# EAGLE library part FE05-2 (library squirrel)
FEMALE HEADER
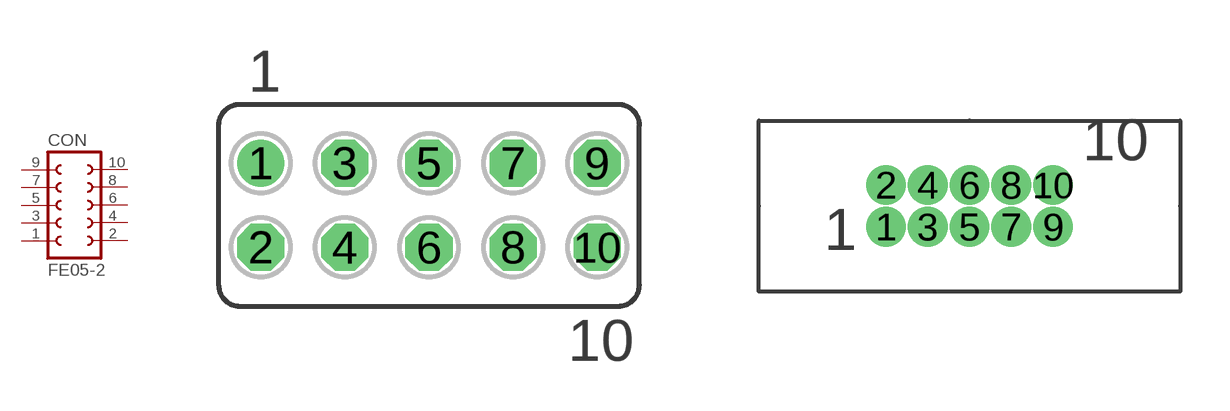
[diagram p20: symbol with the pads of FE05-2; footprints FE05-2, FE05-2-HD]

Designator prefix CON

## FE05-2 (OC_FARNELL: unknown; OC_NEWARK: unknown)  [FE05-2]
1  1  pas
2  2  pas
3  3  pas
4  4  pas
5  5  pas
6  6  pas
7  7  pas
8  8  pas
9  9  pas
10  10  pas

## FE05-2HD  [FE05-2-HD]
Pads as for FE05-2

## FE05-2HD-2  [FE02-2-HD-2]
Pads as for FE05-2

## Footprint FE05-2 (pad centres in mm)
FEMALE HEADER
drill 0.914: 1 -5.08,1.27
drill 0.914 octagon: 2 -5.08,-1.27; 3 -2.54,1.27; 4 -2.54,-1.27; 5 0,1.27; 6 0,-1.27; 7 2.54,1.27; 8 2.54,-1.27; 9 5.08,1.27; 10 5.08,-1.27

## Footprint FE05-2-HD (pad centres in mm)
drill 0.7 pad 1.1: 1 -2.78,-0.54; 2 -2.78,0.73; 3 -1.51,-0.54; 4 -1.51,0.73; 5 -0.24,-0.54; 6 -0.24,0.73; 7 1.03,-0.54; 8 1.03,0.73; 9 2.3,-0.54; 10 2.3,0.73

## Footprint FE02-2-HD-2 (pad centres in mm)
drill 0.7 pad 1.1: 1 -2.54,0; 2 -2.54,1.27; 3 -1.27,0; 4 -1.27,1.27; 5 0,0; 6 0,1.27; 7 1.27,0; 8 1.27,1.27; 9 2.54,0; 10 2.54,1.27